# EAGLE library part NFM-12881BG-11-2 (library 8x8DM_bySunRiver)
8x8 LED Matrix by SunRiver
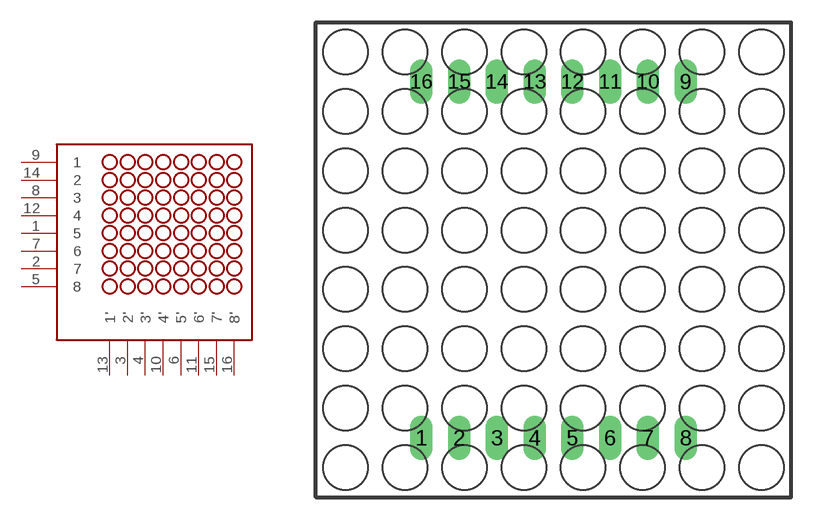
[diagram p0: symbol with the pads of NFM-12881BG-11; footprint NFM-12881BG-11]

Designator prefix -

## NFM-12881BG-11-2  [NFM-12881BG-11]
1  5  in
2  7  in
3  2'  out
4  3'  out
5  8  in
6  5'  out
7  6  in
8  3  in
9  1  in
10  4'  out
11  6'  out
12  4  in
13  1'  out
14  2  in
15  7'  out
16  8'  out

## Footprint NFM-12881BG-11 (pad centres in mm)
NFM-12881 Single Colour 8x8 LED Matrix Available from - Futurlec (LEDM88G)
drill 1 long: 1 -8.89,-12; 2 -6.35,-12; 3 -3.81,-12; 4 -1.27,-12; 5 1.27,-12; 6 3.81,-12; 7 6.35,-12; 8 8.89,-12; 9 8.89,12; 10 6.35,12; 11 3.81,12; 12 1.27,12; 13 -1.27,12; 14 -3.81,12; 15 -6.35,12; 16 -8.89,12